# EAGLE library part PANASONIC_P4S_10POS (library ck)
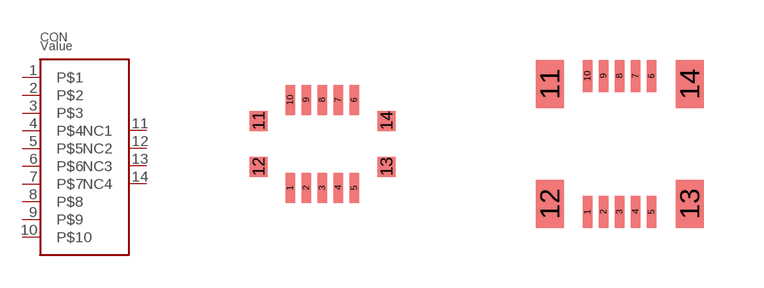
[diagram p20: symbol with the pads of PANASONIC_PLG_P4S_10POS; footprints PANASONIC_PLG_P4S_10POS, PANASONIC_REC_P4S_10POS]

Designator prefix CON

## PANASONIC_P4S_10POSPLG  [PANASONIC_PLG_P4S_10POS]
1  P$1
2  P$2
3  P$3
4  P$4
5  P$5
6  P$6
7  P$7
8  P$8
9  P$9
10  P$10
11  NC1
12  NC2
13  NC3
14  NC4

## PANASONIC_P4S_10POSREC  [PANASONIC_REC_P4S_10POS]
Pads as for PANASONIC_PLG_P4S_10POS

## Footprint PANASONIC_PLG_P4S_10POS (pad centres in mm)
smd 0.23 x 0.75: 1 0.8,-1.1; 2 1.2,-1.1; 3 1.6,-1.1; 4 2,-1.1; 5 2.4,-1.1; 6 2.4,1.1; 7 2,1.1; 8 1.6,1.1; 9 1.2,1.1; 10 0.8,1.1
smd 0.45 x 0.5: 11 0,0.575; 12 0,-0.575; 13 3.2,-0.575; 14 3.2,0.575

## Footprint PANASONIC_REC_P4S_10POS (pad centres in mm)
smd 0.23 x 0.8: 1 0.95,-1.7; 2 1.35,-1.7; 3 1.75,-1.7; 4 2.15,-1.7; 5 2.55,-1.7; 6 2.55,1.7; 7 2.15,1.7; 8 1.75,1.7; 9 1.35,1.7; 10 0.95,1.7
smd 0.7 x 1.2: 11 0,1.5; 12 0,-1.5; 13 3.5,-1.5; 14 3.5,1.5